# Altium schematic symbol library Schlib2.SchLib: 1 symbol
Pins are listed as number, name and electrical type; pins without a type are passive.

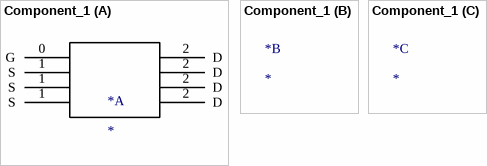
[diagram p0: symbol Component_1]

## Component_1
designator *
part A pins: 0 G, 1 S, 1 S, 1 S, 2 D, 2 D, 2 D, 2 D